# Altium integrated library JQC-3F-1C-24VDC.IntLib: 1 symbol
Pins are listed as number, name and electrical type; pins without a type are passive.

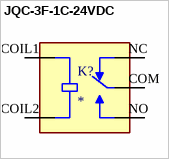
[diagram p0: symbol JQC-3F-1C-24VDC]

## JQC-3F-1C-24VDC
designator K?
Miniature PCB Relay 24VDC, 10A 250VAC, 15A 125VAC, 10A 250VAC; MP: JQC-3F-1C-24VDC; Price: None; Availability: Unavailable; Value: *; Package: None
footprint RELAY_JQC-3F-1C-24VDC
pins: COIL1, COIL2, COM, NC, NO